# Altium schematic symbol library USB4070-30-C_REVC5.SchLib: 1 symbol
Pins are listed as number, name and electrical type; pins without a type are passive.

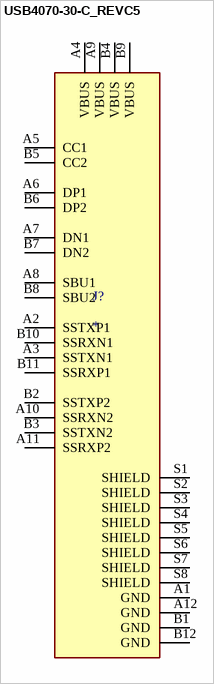
[diagram p0: symbol USB4070-30-C_REVC5]

## USB4070-30-C_REVC5
designator J?
USB-C (USB TYPE-C) USB 3.2 Gen 2 (USB 3.1 Gen 2, Superspeed + (USB 3.1)) Receptacle Connector 24 Position Surface Mount, Through Hole; MF: Global Connector Technology; MP: USB4070-30-C; Digi-Key_Part_Number: 2073-USB4070-30-CTR-ND; SnapEDA_Link: https://www.snapeda.com/parts/USB4070-30-C/Global+Connector+Technology/view-part/?ref=snap; Check_prices: https://www.snapeda.com/parts/USB4070-30-C/Global+Connector+Technology/view-part/?ref=eda; Package: None; Value: *; Purchase-URL: https://pricing.snapeda.com/search/part/USB4070-30-C/?ref=eda
footprint GCT_USB4070-30-C_REVC5
pins: A1 GND (power), A2 SSTXP1, A3 SSTXN1, A4 VBUS (power), A5 CC1, A6 DP1, A7 DN1, A8 SBU1, A9 VBUS (power), A10 SSRXN2, A11 SSRXP2, A12 GND (power), B1 GND (power), B2 SSTXP2, B3 SSTXN2, B4 VBUS (power), B5 CC2, B6 DP2, B7 DN2, B8 SBU2, B9 VBUS (power), B10 SSRXN1, B11 SSRXP1, B12 GND (power), S1 SHIELD, S2 SHIELD, S3 SHIELD, S4 SHIELD, S5 SHIELD, S6 SHIELD, S7 SHIELD, S8 SHIELD